# EAGLE library part AD2S1210 (library Analog Devices)
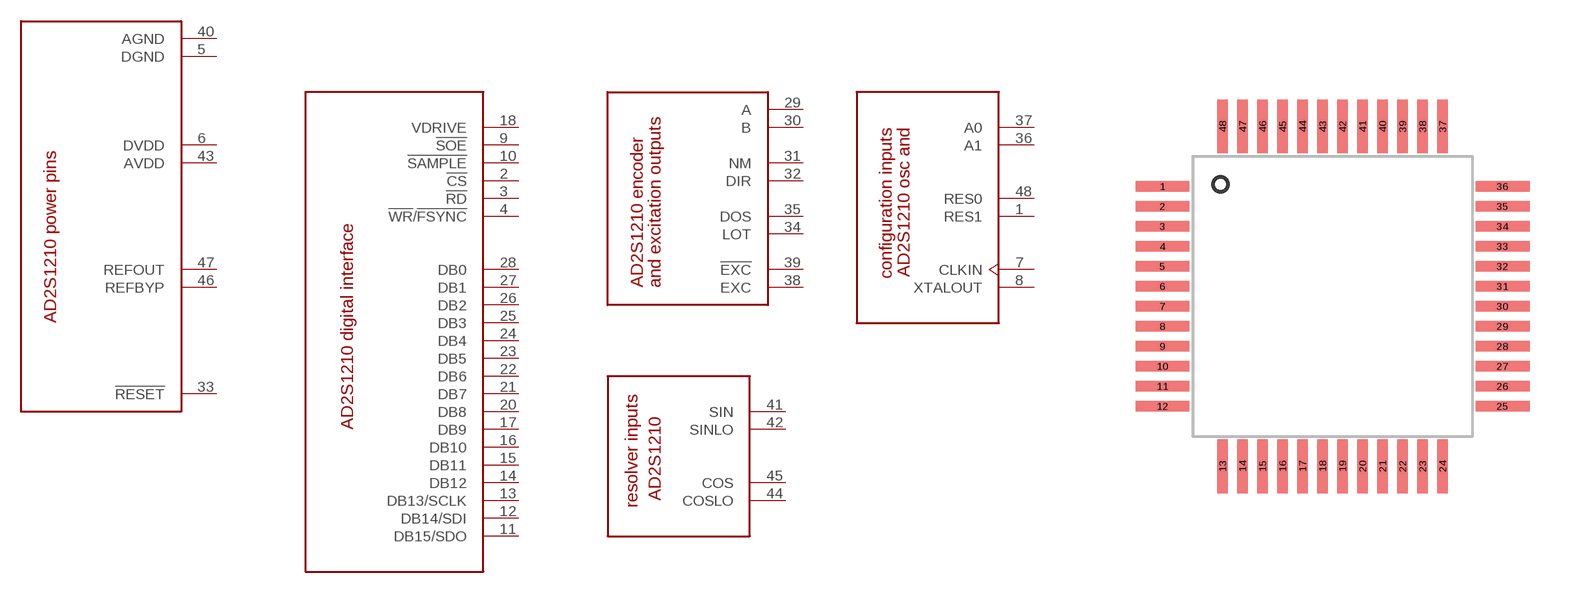
[diagram p0: symbol with the pads of LQFP-48; footprint LQFP-48]

Designator prefix -; gates G$1=AD2S1210_POWER G$2=AD2S1210_DIGITAL G$3=AD2S1210_ENCODER_EXC G$4=AD2S1210_OSC_CONFIG G$5=AD2S1210_RESOLVER

## AD2S1210  [LQFP-48]
1  G$4:RES1  in
2  G$2:!CS  in
3  G$2:!RD  in
4  G$2:!WR!/!FSYNC  in
5  G$1:DGND  pwr
6  G$1:DVDD  pwr
7  G$4:CLKIN  in
8  G$4:XTALOUT  out
9  G$2:!SOE  in
10  G$2:!SAMPLE  in
11  G$2:DB15/SDO  out
12  G$2:DB14/SDI
13  G$2:DB13/SCLK
14  G$2:DB12  out
15  G$2:DB11  out
16  G$2:DB10  out
17  G$2:DB9  out
18  G$2:VDRIVE  in
20  G$2:DB8  out
21  G$2:DB7  out
22  G$2:DB6  out
23  G$2:DB5  out
24  G$2:DB4  out
25  G$2:DB3  out
26  G$2:DB2  out
27  G$2:DB1  out
28  G$2:DB0  out
29  G$3:A  out
30  G$3:B  out
31  G$3:NM  out
32  G$3:DIR  out
33  G$1:!RESET  in
34  G$3:LOT  out
35  G$3:DOS  out
36  G$4:A1  in
37  G$4:A0  in
38  G$3:EXC  out
39  G$3:!EXC  out
40  G$1:AGND  pwr
41  G$5:SIN  in
42  G$5:SINLO  in
43  G$1:AVDD  pwr
44  G$5:COSLO  in
45  G$5:COS  in
46  G$1:REFBYP  in
47  G$1:REFOUT  out
48  G$4:RES0  in

## Footprint LQFP-48 (pad centres in mm)
smd 1.35 x 0.27: 1 -4.25,2.75; 2 -4.25,2.25; 3 -4.25,1.75; 4 -4.25,1.25; 5 -4.25,0.75; 6 -4.25,0.25; 7 -4.25,-0.25; 8 -4.25,-0.75; 9 -4.25,-1.25; 10 -4.25,-1.75; 11 -4.25,-2.25; 12 -4.25,-2.75; 25 4.25,-2.75; 26 4.25,-2.25; 27 4.25,-1.75; 28 4.25,-1.25; 29 4.25,-0.75; 30 4.25,-0.25; 31 4.25,0.25; 32 4.25,0.75; 33 4.25,1.25; 34 4.25,1.75; 35 4.25,2.25; 36 4.25,2.75
smd 0.27 x 1.35: 13 -2.75,-4.25; 14 -2.25,-4.25; 15 -1.75,-4.25; 16 -1.25,-4.25; 17 -0.75,-4.25; 18 -0.25,-4.25; 19 0.25,-4.25; 20 0.75,-4.25; 21 1.25,-4.25; 22 1.75,-4.25; 23 2.25,-4.25; 24 2.75,-4.25; 37 2.75,4.25; 38 2.25,4.25; 39 1.75,4.25; 40 1.25,4.25; 41 0.75,4.25; 42 0.25,4.25; 43 -0.25,4.25; 44 -0.75,4.25; 45 -1.25,4.25; 46 -1.75,4.25; 47 -2.25,4.25; 48 -2.75,4.25